# EAGLE library part ST7735S (library KillCordParts)
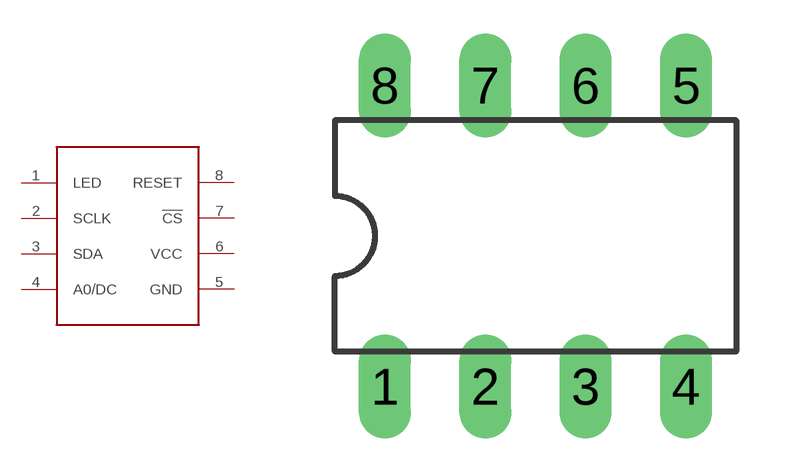
[diagram p1: symbol with the pads of DIL08; footprint DIL08]

Designator prefix -

## ST7735S  [DIL08]
1  LED
2  SCLK
3  SDA
4  A0/DC
5  GND
6  VCC
7  !CS!
8  RESET

## Footprint DIL08 (pad centres in mm)
Dual In Line Package
drill 0.813 long: 1 -3.81,-3.81; 2 -1.27,-3.81; 3 1.27,-3.81; 4 3.81,-3.81; 5 3.81,3.81; 6 1.27,3.81; 7 -1.27,3.81; 8 -3.81,3.81